# EAGLE library part M09VPS (library con-subd)
SUB-D
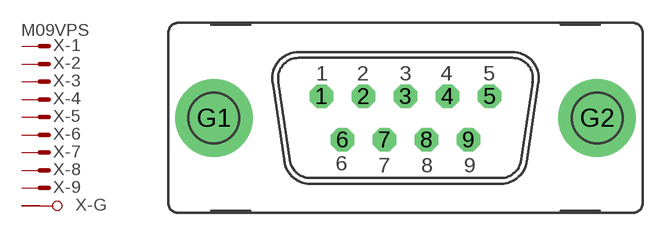
[diagram p3: symbol with the pads of M09VP; footprint M09VP]

Designator prefix X; gates -2=M -3=M -4=M -5=M -6=M -7=M -8=M -9=M -G=GND -1=MV

## M09VPS (OC_FARNELL: unknown; OC_NEWARK: unknown)  [M09VP]
1  -1:M  pas
2  -2:M  pas
3  -3:M  pas
4  -4:M  pas
5  -5:M  pas
6  -6:M  pas
7  -7:M  pas
8  -8:M  pas
9  -9:M  pas
G1  -G:G1  pas
G2  -G:G2  pas

## Footprint M09VP (pad centres in mm)
SUB-D
drill 1.016 octagon: 1 -5.486,1.422; 2 -2.743,1.422; 3 0,1.422; 4 2.743,1.422; 5 5.486,1.422; 6 -4.115,-1.422; 7 -1.372,-1.422; 8 1.372,-1.422; 9 4.115,-1.422
drill 3.302 pad 5.08: G1 -12.522,0; G2 12.522,0